# EAGLE library part XILINX-5FXT-SAM-INTERFACE (library 1A-meinLib)
50-pin Port Interface für Xilinx Virtex -5 FXT Evaluation Kit
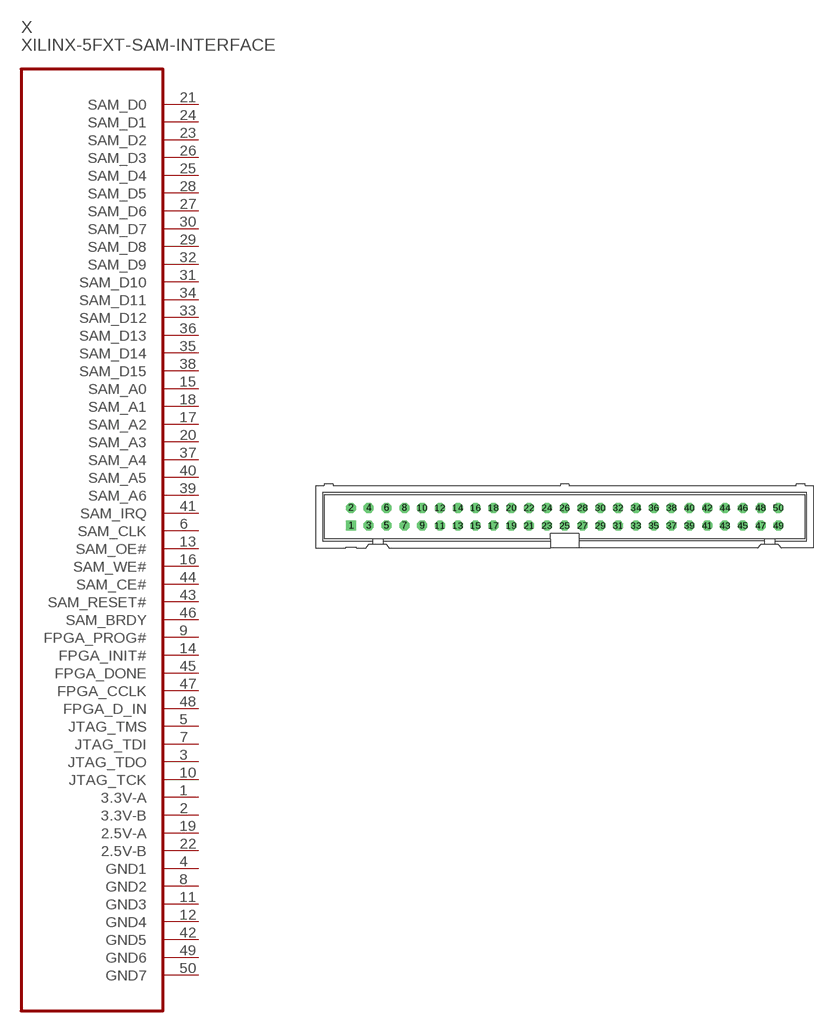
[diagram p349: symbol with the pads of ML50; footprint ML50]

Designator prefix X

## XILINX-5FXT-SAM-INTERFACE  [ML50]
1  3.3V-A
2  3.3V-B  pas
3  JTAG_TDO  pas
4  GND1  pas
5  JTAG_TMS  pas
6  SAM_CLK  pas
7  JTAG_TDI  pas
8  GND2  pas
9  FPGA_PROG#  pas
10  JTAG_TCK  pas
11  GND3  pas
12  GND4  pas
13  SAM_OE#  pas
14  FPGA_INIT#  pas
15  SAM_A0  pas
16  SAM_WE#  pas
17  SAM_A2  pas
18  SAM_A1  pas
19  2.5V-A  pas
20  SAM_A3  pas
21  SAM_D0  pas
22  2.5V-B  pas
23  SAM_D2  pas
24  SAM_D1  pas
25  SAM_D4  pas
26  SAM_D3  pas
27  SAM_D6  pas
28  SAM_D5  pas
29  SAM_D8  pas
30  SAM_D7  pas
31  SAM_D10  pas
32  SAM_D9  pas
33  SAM_D12  pas
34  SAM_D11  pas
35  SAM_D14  pas
36  SAM_D13  pas
37  SAM_A4  pas
38  SAM_D15  pas
39  SAM_A6  pas
40  SAM_A5  pas
41  SAM_IRQ  pas
42  GND5  pas
43  SAM_RESET#  pas
44  SAM_CE#  pas
45  FPGA_DONE  pas
46  SAM_BRDY  pas
47  FPGA_CCLK  pas
48  FPGA_D_IN  pas
49  GND6  pas
50  GND7  pas

## Footprint ML50 (pad centres in mm)
HARTING
drill 0.914 square: 1 -30.48,-1.27
drill 0.914 octagon: 2 -30.48,1.27; 3 -27.94,-1.27; 4 -27.94,1.27; 5 -25.4,-1.27; 6 -25.4,1.27; 7 -22.86,-1.27; 8 -22.86,1.27; 9 -20.32,-1.27; 10 -20.32,1.27; 11 -17.78,-1.27; 12 -17.78,1.27; 13 -15.24,-1.27; 14 -15.24,1.27; 15 -12.7,-1.27; 16 -12.7,1.27; 17 -10.16,-1.27; 18 -10.16,1.27; 19 -7.62,-1.27; 20 -7.62,1.27; 21 -5.08,-1.27; 22 -5.08,1.27; 23 -2.54,-1.27; 24 -2.54,1.27; 25 0,-1.27; 26 0,1.27; 27 2.54,-1.27; 28 2.54,1.27; 29 5.08,-1.27; 30 5.08,1.27; 31 7.62,-1.27; 32 7.62,1.27; 33 10.16,-1.27; 34 10.16,1.27; 35 12.7,-1.27; 36 12.7,1.27; 37 15.24,-1.27; 38 15.24,1.27; 39 17.78,-1.27; 40 17.78,1.27; 41 20.32,-1.27; 42 20.32,1.27; 43 22.86,-1.27; 44 22.86,1.27; 45 25.4,-1.27; 46 25.4,1.27; 47 27.94,-1.27; 48 27.94,1.27; 49 30.48,-1.27; 50 30.48,1.27